# EAGLE library part 90122-0780 (library molex_2020)
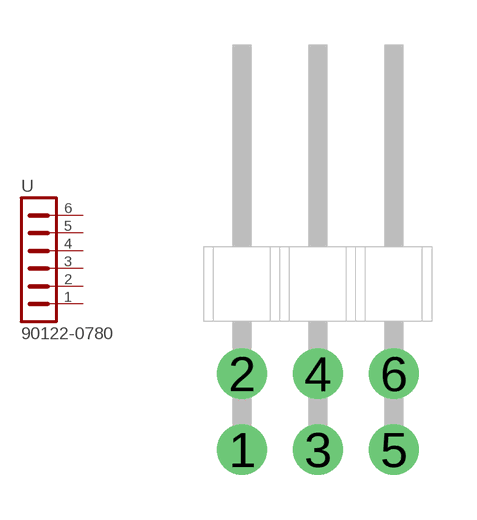
[diagram p1: symbol with the pads of 90122-0763; footprint 90122-0763]

Designator prefix -

## 90122-0780  [90122-0763]
1  1  pas
2  2  pas
3  3  pas
4  4  pas
5  5  pas
6  6  pas

## Footprint 90122-0763 (pad centres in mm)
drill 1 pad 1.676 round: 1 -2.54,-1.27; 2 -2.54,1.27; 3 0,-1.27; 4 0,1.27; 5 2.54,-1.27; 6 2.54,1.27